# EAGLE library part WI07-12 (library Wi07)
Wi07-12 Footprint
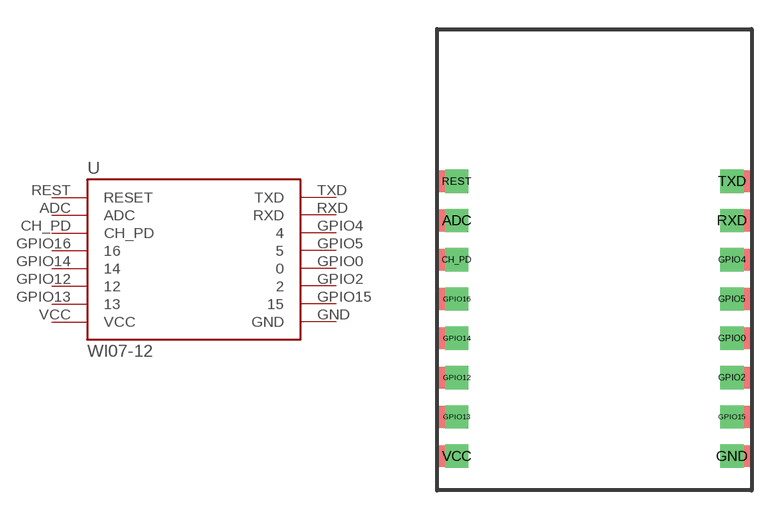
[diagram p0: symbol with the pads of WI07-12; footprint WI07-12]

Designator prefix U

## WI07-12FULL  [WI07-12]
ADC  ADC  in
CH_PD  CH_PD  in
GND  GND  pwr
GPIO0  0
GPIO2  2
GPIO4  4
GPIO5  5
GPIO12  12
GPIO13  13
GPIO14  14
GPIO15  15
GPIO16  16
REST  RESET  in
RXD  RXD  out
TXD  TXD  in
VCC  VCC  pwr

## Footprint WI07-12 (pad centres in mm)
Full Arduino MEGA footprint
drill 0.699 square: ADC 1.016,13.97; CH_PD 1.016,11.938; GND 15.24,1.778; GPIO0 15.24,7.874; GPIO2 15.24,5.842; GPIO4 15.24,11.938; GPIO5 15.24,9.906; GPIO12 1.016,5.842; GPIO13 1.016,3.81; GPIO14 1.016,7.874; GPIO15 15.24,3.81; GPIO16 1.016,9.906; REST 1.016,16.002; RXD 15.24,13.97; TXD 15.24,16.002; VCC 1.016,1.778